# Altium footprint library IC Footprints.PcbLib: 34 footprints (part 3 of 3)
Each footprint in its own frame and in the unit in brackets; x right, y up, seen from the top. Pads: shape width x height; smd on the part's side, far side on the other; paste and mask are expansions set on the pad; w line width, h text height; cw(c..) or ccw(c..) is an arc to the next point about the centre after c.
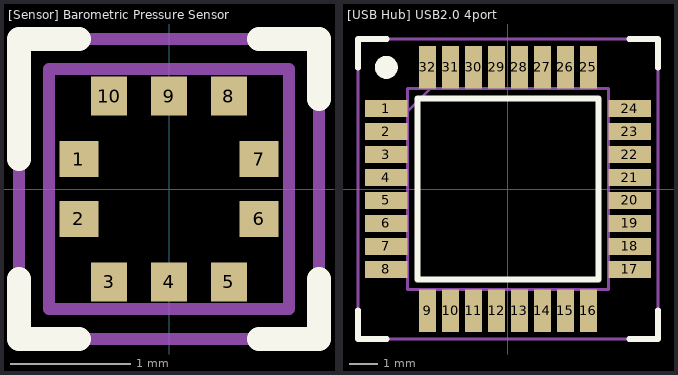
[diagram p2: the footprints below, top view; thin cyan lines are the x and y axes]

## [Sensor] Barometric Pressure Sensor [mm] "BMP581"
pads (10):
  rect 0.325x0.3 smd: 1(-0.75,0.25) 2(-0.75,-0.25) 6(0.75,-0.25) 7(0.75,0.25)
  rect 0.3x0.325 smd: 3(-0.5,-0.775) 4(0,-0.775) 5(0.5,-0.775) 8(0.5,0.775) 9(0,0.775) 10(-0.5,0.775)
Top Overlay:
  lines w0.2: -1.25,-0.75 -1.25,-1.25 -0.75,-1.25 ; -1.25,0.25 -1.25,1.25 -0.75,1.25 ; 0.75,-1.25 1.25,-1.25 1.25,-0.75 ; 0.75,1.25 1.25,1.25 1.25,0.75
Physical Outline:
  lines w0.1: -1,-1 1,-1 1,1 -1,1 -1,-1
Part Outline:
  lines w0.1: -1.25,-1.25 1.25,-1.25 1.25,1.25 -1.25,1.25 -1.25,-1.25
3D body "BMP581.stp": height 0.8, standoff 0, extent -1,-1 1,1

## [USB Hub] USB2.0 4port [mm]
pads (32):
  rect 1.475x0.6 smd: 1(-4.238,2.8) 2(-4.238,2) 3(-4.238,1.2) 4(-4.238,0.4) 5(-4.238,-0.4) 6(-4.238,-1.2) 7(-4.238,-2) 8(-4.238,-2.8) 17(4.238,-2.8) 18(4.238,-2) 19(4.238,-1.2) 20(4.238,-0.4) 21(4.238,0.4) 22(4.238,1.2) 23(4.238,2) 24(4.238,2.8)
  rect 0.6x1.475 smd: 9(-2.8,-4.238) 10(-2,-4.238) 11(-1.2,-4.238) 12(-0.4,-4.238) 13(0.4,-4.238) 14(1.2,-4.238) 15(2,-4.238) 16(2.8,-4.238) 25(2.8,4.238) 26(2,4.238) 27(1.2,4.238) 28(0.4,4.238) 29(-0.4,4.238) 30(-1.2,4.238) 31(-2,4.238) 32(-2.8,4.238)
Top Overlay:
  circle w0.4: c-4.238,4.238 r0.2
  lines w0.2: -5.225,-4.225 -5.225,-5.225 -4.225,-5.225 ; -5.225,4.225 -5.225,5.225 -4.225,5.225 ; 4.225,-5.225 5.225,-5.225 5.225,-4.225 ; 4.225,5.225 5.225,5.225 5.225,4.225 ; -3.15,-3.15 -3.15,3.15 3.15,3.15 3.15,-3.15 -3.15,-3.15
Physical Outline:
  lines w0.1: -3.5,2.7 -2.7,3.5 ; -3.5,-3.5 -3.5,3.5 3.5,3.5 3.5,-3.5 -3.5,-3.5
Part Outline:
  lines w0.1: -5.225,-5.225 -5.225,5.225 5.225,5.225 5.225,-5.225 -5.225,-5.225
3D body "TUSB2046BVFRG4.stp": height 1.6, standoff 0, extent -4.5,-4.5 4.5,4.5